# Altium footprint library NEO6MSENSOR.PcbLib: 1 footprints
Each footprint in its own frame and in the unit in brackets; x right, y up, seen from the top. Pads: shape width x height; smd on the part's side, far side on the other; paste and mask are expansions set on the pad; w line width, h text height; cw(c..) or ccw(c..) is an arc to the next point about the centre after c.
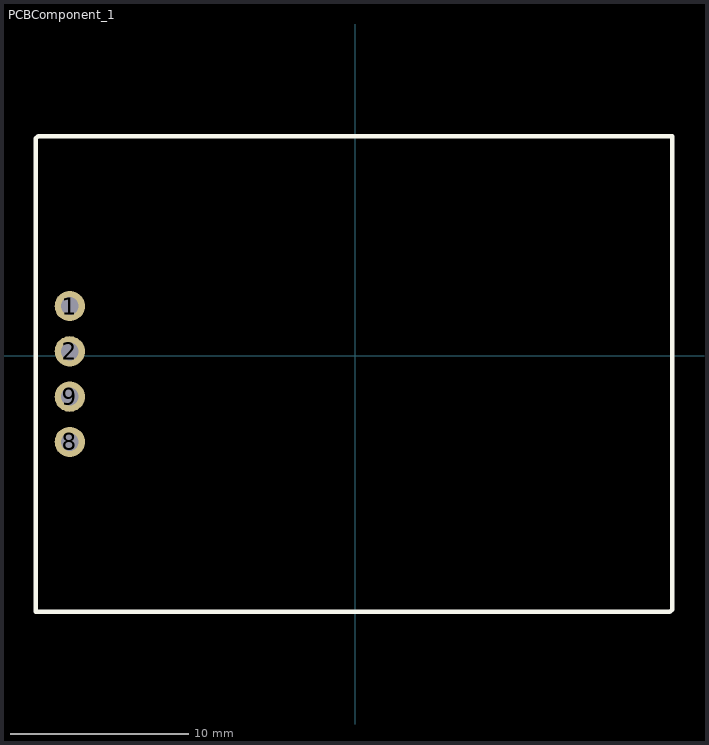
[diagram p0: the footprint, top view; thin cyan lines are the x and y axes]

## PCBComponent_1 [mm]
pads (4):
  round 1.7 hole 1: 1(-16.002,2.794) 2(-16.002,0.254) 8(-16.002,-4.826) 9(-16.002,-2.286)
Top Overlay:
  lines w0.254: -17.907,-14.351 -17.907,12.192 -17.78,12.319 17.78,12.319 17.78,-14.224 17.653,-14.351 -17.907,-14.351
3D body "User Library-User Library-GY-GPS6MV2 v1.STEP": height 6.07, standoff -3.93, extent -17.7,-14.097 17.7,12.103